# Altium footprint library SOT127P724X180-6N.PcbLib: 1 footprints
Each footprint in its own frame and in the unit in brackets; x right, y up, seen from the top. Pads: shape width x height; smd on the part's side, far side on the other; paste and mask are expansions set on the pad; w line width, h text height; cw(c..) or ccw(c..) is an arc to the next point about the centre after c.
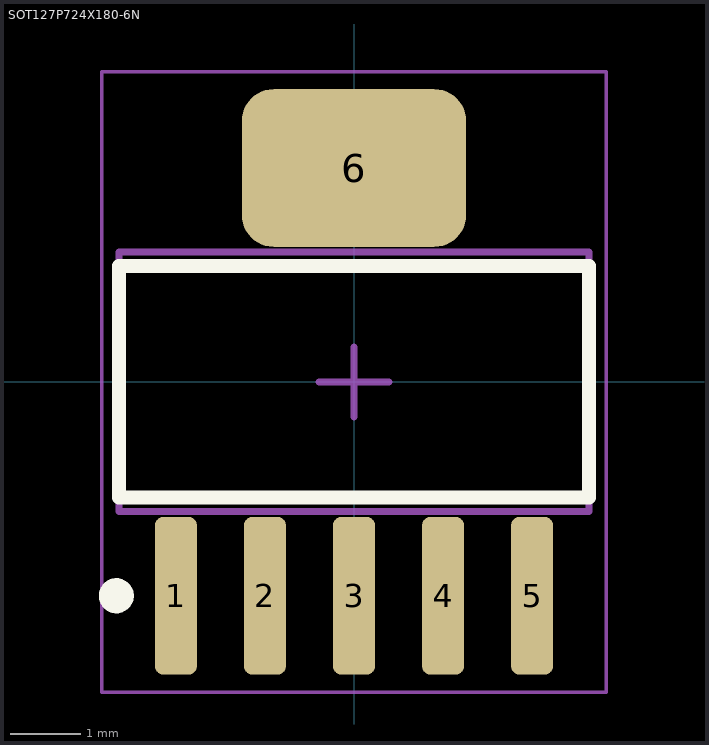
[diagram p0: the footprint, top view; thin cyan lines are the x and y axes]

## SOT127P724X180-6N [mm] "SOT223, 6-Leads, Body 6,50x7,24mm (avg), Pitch 1,27mm, IPC Medium Density"
height 1.8
pads (6):
  rrect40% 0.6x2.25 smd: 1(-2.54,-3.05) 2(-1.27,-3.05) 3(0,-3.05) 4(1.27,-3.05) 5(2.54,-3.05)
  rrect40% 3.2x2.25 smd: 6(0,3.05)
Top Overlay:
  circle w0.25: c-3.39,-3.05 r0.125
  lines w0.2: -3.35,-1.65 3.35,-1.65 3.35,1.65 -3.35,1.65 -3.35,-1.65
Top Assembly:
  lines w0.1: -3.35,-1.85 3.35,-1.85 3.35,1.85 -3.35,1.85 -3.35,-1.85
Mechanical 15:
  lines w0.05: -3.6,-4.425 3.6,-4.425 3.6,4.425 -3.6,4.425 -3.6,-4.425
  lines w0.1: -0.5,0 0.5,0 ; 0,-0.5 0,0.5
3D body "SOT127P724X180-6N.step": height 1.8, standoff 0, extent -3.35,-3.62 3.35,3.62